# Altium schematic symbol library PIC(28)pin.SchLib: 1 symbol
Pins are listed as number, name and electrical type; pins without a type are passive.

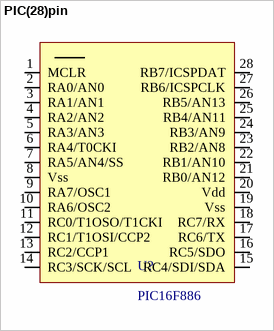
[diagram p0: symbol PIC(28)pin]

## PIC(28)pin
designator U?, comment PIC16F886
footprint PIC(28) pin
pins: 1 MCLR, 2 RA0/AN0, 3 RA1/AN1, 4 RA2/AN2, 5 RA3/AN3, 6 RA4/T0CKI, 7 RA5/AN4/SS, 8 Vss, 9 RA7/OSC1, 10 RA6/OSC2, 11 RC0/T1OSO/T1CKI, 12 RC1/T1OSI/CCP2, 13 RC2/CCP1, 14 RC3/SCK/SCL, 15 RC4/SDI/SDA, 16 RC5/SDO, 17 RC6/TX, 18 RC7/RX, 19 Vss, 20 Vdd, 21 RB0/AN12, 22 RB1/AN10, 23 RB2/AN8, 24 RB3/AN9, 25 RB4/AN11, 26 RB5/AN13, 27 RB6/ICSPCLK, 28 RB7/ICSPDAT